# Altium footprint library TRM-315.PcbLib: 1 footprints
Each footprint in its own frame and in the unit in brackets; x right, y up, seen from the top. Pads: shape width x height; smd on the part's side, far side on the other; paste and mask are expansions set on the pad; w line width, h text height; cw(c..) or ccw(c..) is an arc to the next point about the centre after c.
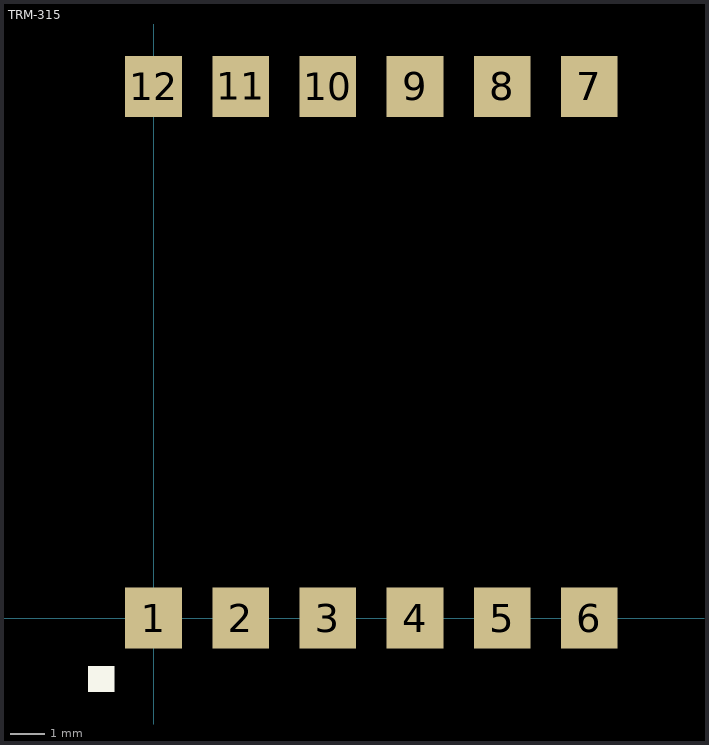
[diagram p0: the footprint, top view; thin cyan lines are the x and y axes]

## TRM-315 [mil]
pads (12):
  rect 65x70 smd: 1(0,0) 2(100,0) 3(200,0) 4(300,0) 5(400,0) 6(500,0) 7(500,610) 8(400,610) 9(300,610) 10(200,610) 11(100,610) 12(0,610)
Top Overlay:
  rectangle: -75,-85 -45,-55